# Altium footprint library Metal Screening Box.PcbLib: 38 footprints (part 2 of 3)
Each footprint in its own frame and in the unit in brackets; x right, y up, seen from the top. Pads: shape width x height; smd on the part's side, far side on the other; paste and mask are expansions set on the pad; w line width, h text height; cw(c..) or ccw(c..) is an arc to the next point about the centre after c.
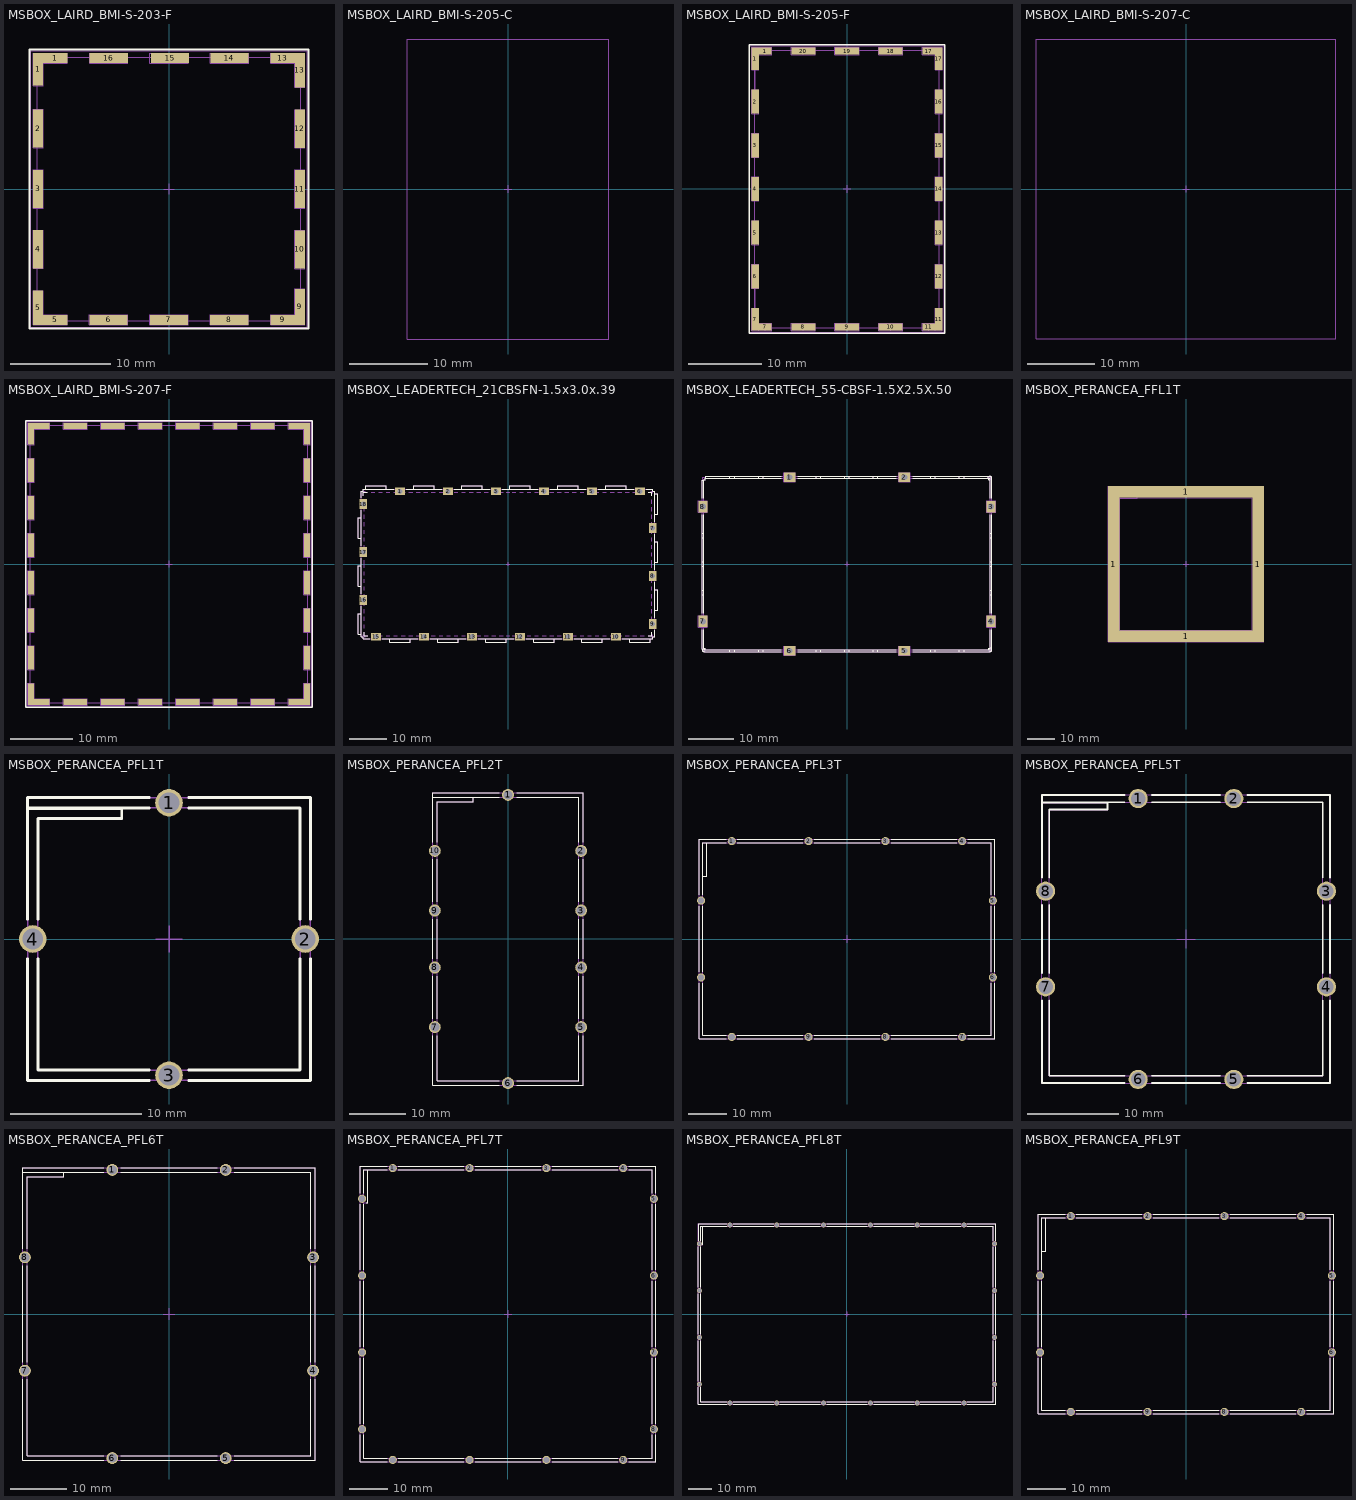
[diagram p1: the footprints below, top view; thin cyan lines are the x and y axes]

## MSBOX_LAIRD_BMI-S-203-F [mm] "Frame of Standard Surface Mount Shield (Two Piece), External Dimensions 26.21 x 26.21mm"
height 5.08
pads (20):
  rect 1x3.24 smd: 1(-13.005,11.885)
  rect 2.41x1 smd: 1(-11.3,13.005) 9(11.3,-13.005)
  rect 1x3.8 smd: 2(-13.005,6.005) 3(-13.005,0.005) 4(-13.005,-5.995) 10(13.005,-6.005) 11(13.005,-0.005) 12(13.005,5.995)
  rect 1x3.41 smd: 5(-13.005,-11.8) 13(13.005,11.8)
  rect 2.4x1 smd: 5(-11.305,-13.005) 13(11.305,13.005)
  rect 3.8x1 smd: 6(-6.005,-13.005) 7(-0.005,-13.005) 8(5.995,-13.005) 14(6.005,13.005) 15(0.1,13.005) 16(-5.995,13.005)
  rect 1x3.57 smd: 9(13.005,-11.72)
Top Overlay:
  lines w0.2: -13.855,-13.855 -13.855,13.855 13.855,13.855 13.855,-13.855 -13.855,-13.855
Mechanical 8:
  drawing of 183 lines, arcs and shapes, not listed
Mechanical 14:
  lines w0.1: -13.105,-13.105 -13.105,13.105 13.105,13.105 13.105,-13.105 -13.105,-13.105
Mechanical 15:
  lines w0.05: -13.755,-13.755 -13.755,13.755 13.755,13.755 13.755,-13.755 -13.755,-13.755
3D body "MSBOX_LAIRD_BMI-S-203-F.stp": height 5.08, standoff 0, extent -13.155,-13.155 13.155,13.155

## MSBOX_LAIRD_BMI-S-205-C [mm] "Cover for Frame of Standard Surface Mount Shield (Two Piece), External Dimensions 25.86 x 38.56mm"
height 2
Mechanical 8:
  lines w0.1: -0.5,0 0,0 ; -0.5,0 0,0 ; -0.5,0 0,0 ; 0,0 0,0.5 0,0 ; 0,0 0.5,0 0,0 ; 0,0 0,-0.5 0,0
Mechanical 14:
  lines w0.1: -12.93,-19.28 -12.93,19.28 12.93,19.28 12.93,-19.28 -12.93,-19.28
3D body "MSBOX_LAIRD_BMI-S-205-C.stp": height 6.13, standoff 4.13, extent -12.93,-19.28 12.93,19.28

## MSBOX_LAIRD_BMI-S-205-F [mm] "Frame of Standard Surface Mount Shield (Two Piece), External Dimensions 25.4 x 38.1mm"
height 6
pads (24):
  rect 1x3.1 smd: 1(-12.6,17.9) 7(-12.6,-17.9) 11(12.6,-17.9) 17(12.6,17.9)
  rect 1.75x1 smd: 1(-11.225,18.95) 7(-11.225,-18.953) 11(11.225,-18.95) 17(11.225,18.95)
  rect 1x3.3 smd: 2(-12.6,12) 3(-12.6,6) 4(-12.6,0) 5(-12.6,-6) 6(-12.6,-12) 12(12.6,-12) 13(12.6,-6) 14(12.6,0) 15(12.6,6) 16(12.6,12)
  rect 3.3x1 smd: 8(-6,-18.957) 9(0,-18.95) 10(6,-18.95) 18(6,18.95) 19(0,18.95) 20(-6,18.95)
Top Overlay:
  lines w0.2: -13.45,-19.8 -13.45,19.8 13.45,19.8 13.45,-19.8 -13.45,-19.8
Mechanical 8:
  drawing of 221 lines, arcs and shapes, not listed
Mechanical 14:
  lines w0.1: -12.7,-19.05 -12.7,19.05 12.7,19.05 12.7,-19.05 -12.7,-19.05
Mechanical 15:
  lines w0.05: -13.35,-19.7 -13.35,19.7 13.35,19.7 13.35,-19.7 -13.35,-19.7
3D body "MSBOX_LAIRD_BMI-S-205-F.stp": height 6, standoff 0, extent -12.75,-19.1 12.75,19.1

## MSBOX_LAIRD_BMI-S-207-C [mm] "Cover for Frame of Standard Surface Mount Shield (Two Piece), External Dimensions 44.83 x 44.83mm"
height 2
Mechanical 8:
  lines w0.1: 0,0 -0.5,0 0,0 ; 0,0 0,0.5 ; 0,0 0,-0.5 0,0 ; 0,0 0.5,0 0,0 ; 0,0 0,0.5 ; 0,0 0,0.5
Mechanical 14:
  lines w0.1: -22.415,-22.415 -22.415,22.415 22.415,22.415 22.415,-22.415 -22.415,-22.415
3D body "MSBOX_LAIRD_BMI-S-207-C.stp": height 9.88, standoff 7.88, extent -22.415,-22.415 22.415,22.415

## MSBOX_LAIRD_BMI-S-207-F [mm] "Frame of Standard Surface Mount Shield (Two Piece), External Dimensions 44.37 x 44.37mm"
height 9.75
pads (32):
  rect 1x3.485 smd: 1(-22.085,20.843) 8(-22.085,-20.843) 15(22.085,-20.843) 22(22.085,20.843)
  rect 2.485x1 smd: 1(-20.342,22.085) 8(-20.342,-22.085) 15(20.342,-22.085) 22(20.342,22.085)
  rect 1x3.8 smd: 2(-22.085,15) 3(-22.085,9) 4(-22.085,3) 5(-22.085,-3) 6(-22.085,-9) 7(-22.085,-15) 16(22.085,-15) 17(22.085,-9) 18(22.085,-3) 19(22.085,3) 20(22.085,9) 21(22.085,15)
  rect 3.8x1 smd: 9(-15,-22.085) 10(-9,-22.085) 11(-3,-22.085) 12(3,-22.085) 13(9,-22.085) 14(15,-22.085) 23(15,22.085) 24(9,22.085) 25(3,22.085) 26(-3,22.085) 27(-9,22.085) 28(-15,22.085)
Top Overlay:
  lines w0.2: -22.935,-22.935 -22.935,22.935 22.935,22.935 22.935,-22.935 -22.935,-22.935
Mechanical 8:
  drawing of 293 lines, arcs and shapes, not listed
Mechanical 14:
  lines w0.1: -22.185,-22.185 -22.185,22.185 22.185,22.185 22.185,-22.185 -22.185,-22.185
Mechanical 15:
  lines w0.05: -22.835,-22.835 -22.835,22.835 22.835,22.835 22.835,-22.835 -22.835,-22.835
3D body "MSBOX_LAIRD_BMI-S-207-F.stp": height 9.75, standoff 0, extent -22.235,-22.235 22.235,22.235

## MSBOX_LEADERTECH_21CBSFN-1.5x3.0x.39 [mm] "Metal Screening Box, Internal dimensions L38.1 x W76.2 x H9.9mm, Overall Size 38.48 x 76.58 x 10.28mm"
height 10.28
pads (18):
  rect 2.6x2 / inner round 2 / far side round 2 hole 1.3: 1(-28.575,19.202) 2(-15.875,19.202) 3(-3.175,19.202) 4(9.525,19.202) 5(22.225,19.202) 6(34.925,19.202) 10(28.575,-19.202) 11(15.875,-19.202) 12(3.175,-19.202) 13(-9.525,-19.202) 14(-22.225,-19.202) 15(-34.925,-19.202)
  rect 2x2.6 / inner round 2 / far side round 2 hole 1.3: 7(38.252,9.525) 8(38.252,-3.175) 9(38.252,-15.875) 16(-38.252,-9.525) 17(-38.252,3.175) 18(-38.252,15.875)
Top Overlay:
  lines w0.2: -38.824,-18.55 -39.698,-18.55 -39.698,-13.2 -38.824,-13.2 ; -38.824,-11.175 -38.824,-19.202 -38.252,-19.202 -38.252,-19.774 -36.575,-19.774 ; -38.824,-7.875 -38.824,1.525 ; -38.824,-5.85 -39.698,-5.85 -39.698,-0.5 -38.824,-0.5 ; -38.824,4.825 -38.824,14.225 ; -38.824,6.85 -39.698,6.85 -39.698,12.2 -38.824,12.2 ; -38.824,17.525 -38.824,19.202 -38.252,19.202 -38.252,19.774 -30.225,19.774 ; -38.257,18.012 -38.257,19.012 -37.257,19.012 ; -38.062,-18.012 -38.062,-19.012 -37.062,-19.012 ; -37.6,19.819 -37.6,20.648 -32.25,20.648 -32.25,19.774 ; -33.275,-19.774 -23.875,-19.774 ; -31.25,-19.774 -31.25,-20.648 -25.9,-20.648 -25.9,-19.774 ; -26.925,19.774 -17.525,19.774 ; -24.9,19.819 -24.9,20.648 -19.55,20.648 -19.55,19.774 ; -20.575,-19.774 -11.175,-19.774 ; -18.55,-19.774 -18.55,-20.648 -13.2,-20.648 -13.2,-19.774 ; -14.225,19.774 -4.825,19.774 ; -12.2,19.819 -12.2,20.648 -6.85,20.648 -6.85,19.774 ; -7.875,-19.774 1.525,-19.774 ; -5.85,-19.774 -5.85,-20.648 -0.5,-20.648 -0.5,-19.774 ; -1.525,19.774 7.875,19.774 ; 0.5,19.819 0.5,20.648 5.85,20.648 5.85,19.774 ; 4.825,-19.774 14.225,-19.774 ; 6.85,-19.774 6.85,-20.648 12.2,-20.648 12.2,-19.774 ; 11.175,19.774 20.575,19.774 ; 13.2,19.819 13.2,20.648 18.55,20.648 18.55,19.774 ; 17.525,-19.774 26.925,-19.774 ; 19.55,-19.774 19.55,-20.648 24.9,-20.648 24.9,-19.774 ; 23.875,19.774 33.275,19.774 ; 25.9,19.819 25.9,20.648 31.25,20.648 31.25,19.774 ; 30.225,-19.774 38.252,-19.774 38.252,-19.202 38.824,-19.202 38.824,-17.525 ; 32.25,-19.774 32.25,-20.648 37.6,-20.648 37.6,-19.774 ; 36.575,19.774 38.252,19.774 38.252,19.202 38.824,19.202 38.824,11.175 ; 37.062,-19.012 38.062,-19.012 38.062,-18.012 ; 37.062,19.012 38.062,19.012 38.062,18.012 ; 38.824,-14.225 38.824,-4.825 ; 38.824,-12.2 39.698,-12.2 39.698,-6.85 38.824,-6.85 ; 38.824,-1.525 38.824,7.875 ; 38.824,0.5 39.698,0.5 39.698,5.85 38.824,5.85 ; 38.824,13.2 39.698,13.2 39.698,18.55 38.824,18.55
Mechanical 8:
  lines w0.1: -38.752,-9.525 -38.252,-9.525 ; -38.752,3.175 -38.252,3.175 ; -38.752,15.875 -38.252,15.875 ; -38.252,-18.702 -38.252,-19.202 -37.752,-19.202 ; -38.252,-10.025 -38.252,-9.525 ; -38.252,-9.025 -38.252,-9.525 ; -38.252,2.675 -38.252,3.175 ; -38.252,3.675 -38.252,3.175 ; -38.252,15.375 -38.252,15.875 ; -38.252,16.375 -38.252,15.875 ; -38.252,18.702 -38.252,19.202 -37.752,19.202 ; -37.752,-9.525 -38.252,-9.525 ; -37.752,3.175 -38.252,3.175 ; -37.752,15.875 -38.252,15.875 ; -35.425,-19.202 -34.925,-19.202 ; -34.925,-19.702 -34.925,-19.202 ; -34.925,-18.702 -34.925,-19.202 ; -34.425,-19.202 -34.925,-19.202 ; -29.075,19.202 -28.575,19.202 ; -28.575,18.702 -28.575,19.202 ; -28.575,19.702 -28.575,19.202 ; -28.075,19.202 -28.575,19.202 ; -22.725,-19.202 -22.225,-19.202 ; -22.225,-19.702 -22.225,-19.202 ; -22.225,-18.702 -22.225,-19.202 ; -21.725,-19.202 -22.225,-19.202 ; -16.375,19.202 -15.875,19.202 ; -15.875,18.702 -15.875,19.202 ; -15.875,19.702 -15.875,19.202 ; -15.375,19.202 -15.875,19.202 ; -10.025,-19.202 -9.525,-19.202 ; -9.525,-19.702 -9.525,-19.202 ; -9.525,-18.702 -9.525,-19.202 ; -9.025,-19.202 -9.525,-19.202 ; -3.675,19.202 -3.175,19.202 ; -3.175,18.702 -3.175,19.202 ; -3.175,19.702 -3.175,19.202 ; -2.675,19.202 -3.175,19.202 ; -0.5,0 0,0 ; 0,-0.5 0,0 ; 0,0.5 0,0 ; 0.5,0 0,0 ; 2.675,-19.202 3.175,-19.202 ; 3.175,-19.702 3.175,-19.202 ; 3.175,-18.702 3.175,-19.202 ; 3.675,-19.202 3.175,-19.202 ; 9.025,19.202 9.525,19.202 ; 9.525,18.702 9.525,19.202 ; 9.525,19.702 9.525,19.202 ; 10.025,19.202 9.525,19.202 ; 15.375,-19.202 15.875,-19.202 ; 15.875,-19.702 15.875,-19.202 ; 15.875,-18.702 15.875,-19.202 ; 16.375,-19.202 15.875,-19.202 ; 21.725,19.202 22.225,19.202 ; 22.225,18.702 22.225,19.202 ; 22.225,19.702 22.225,19.202 ; 22.725,19.202 22.225,19.202 ; 28.075,-19.202 28.575,-19.202 ; 28.575,-19.702 28.575,-19.202 ; 28.575,-18.702 28.575,-19.202 ; 29.075,-19.202 28.575,-19.202 ; 34.425,19.202 34.925,19.202 ; 34.925,18.702 34.925,19.202 ; 34.925,19.702 34.925,19.202 ; 35.425,19.202 34.925,19.202 ; 37.752,-19.202 38.252,-19.202 38.252,-18.702 ; 37.752,-15.875 38.252,-15.875 ; 37.752,-3.175 38.252,-3.175 ; 37.752,9.525 38.252,9.525 ; 37.752,19.202 38.252,19.202 38.252,18.702 ; 38.252,-16.375 38.252,-15.875 ; 38.252,-15.375 38.252,-15.875 ; 38.252,-3.675 38.252,-3.175 ; 38.252,-2.675 38.252,-3.175 ; 38.252,9.025 38.252,9.525 ; 38.252,10.025 38.252,9.525 ; 38.752,-15.875 38.252,-15.875 ; 38.752,-3.175 38.252,-3.175 ; 38.752,9.525 38.252,9.525
Mechanical 14:
  drawing of 184 lines, arcs and shapes, not listed
3D body "LEADERTECH_21CBSFN-1.5x3.0x.39.stp": height 10.01, standoff -2.54, extent -39.698,-20.648 39.698,20.648

## MSBOX_LEADERTECH_55-CBSF-1.5X2.5X.50 [mm] "Metal Screening Box, W1.5 x L2.5 x 0.5\", 1.0\" Pin Spacing"
height 12.7
pads (8):
  rect 2.6x2 / inner round 2 / far side round 2 hole 1.3: 1(-12.7,19.202) 2(12.7,19.202) 5(12.7,-19.202) 6(-12.7,-19.202)
  rect 2x2.6 / inner round 2 / far side round 2 hole 1.3: 3(31.902,12.7) 4(31.902,-12.7) 7(-31.902,-12.7) 8(-31.902,12.7)
Top Overlay:
  lines w0.2: -32.093,-14.5 -32.093,-18.885 ccw(c-31.585,-18.885) -31.585,-19.393 -14.5,-19.393 ; -32.093,-10.9 -32.093,10.9 ; -32.093,-6.858 -31.712,-6.858 ; -32.093,-5.842 -31.712,-5.842 ; -32.093,-0.508 -31.712,-0.508 ; -32.093,0.508 -31.712,0.508 ; -32.093,5.842 -31.712,5.842 ; -32.093,6.858 -31.712,6.858 ; -32.093,14.5 -32.093,18.542 -31.712,18.542 ; -31.712,-18.631 -31.331,-18.631 -31.331,-19.012 ; -31.712,-14.5 -31.712,-18.885 ccw(c-31.585,-18.885) -31.585,-19.012 -14.5,-19.012 ; -31.712,-10.9 -31.712,10.9 ; -31.712,14.5 -31.712,18.631 -31.331,18.631 -31.331,19.012 -14.5,19.012 ; -31.242,19.012 -31.242,19.393 -14.5,19.393 ; -25.908,-19.393 -25.908,-19.012 ; -25.908,19.012 -25.908,19.393 ; -24.892,-19.393 -24.892,-19.012 ; -24.892,19.012 -24.892,19.393 ; -19.558,-19.393 -19.558,-19.012 ; -19.558,19.012 -19.558,19.393 ; -18.542,-19.393 -18.542,-19.012 ; -18.542,19.012 -18.542,19.393 ; -10.9,-19.393 10.9,-19.393 ; -10.9,-19.012 10.9,-19.012 ; -10.9,19.012 10.9,19.012 ; -10.9,19.393 10.9,19.393 ; -6.858,-19.393 -6.858,-19.012 ; -6.858,19.012 -6.858,19.393 ; -5.842,-19.393 -5.842,-19.012 ; -5.842,19.012 -5.842,19.393 ; -0.508,-19.393 -0.508,-19.012 ; -0.508,19.012 -0.508,19.393 ; 0.508,-19.393 0.508,-19.012 ; 0.508,19.012 0.508,19.393 ; 5.842,-19.393 5.842,-19.012 ; 5.842,19.012 5.842,19.393 ; 6.858,-19.393 6.858,-19.012 ; 6.858,19.012 6.858,19.393 ; 14.5,-19.393 31.585,-19.393 ccw(c31.585,-18.885) 32.093,-18.885 32.093,-14.5 ; 14.5,-19.012 31.585,-19.012 ccw(c31.585,-18.885) 31.712,-18.885 31.712,-14.5 ; 14.5,19.012 31.585,19.012 cw(c31.585,18.885) 31.712,18.885 31.712,14.5 ; 14.5,19.393 31.585,19.393 cw(c31.585,18.885) 32.093,18.885 32.093,14.5 ; 18.542,-19.393 18.542,-19.012 ; 18.542,19.012 18.542,19.393 ; 19.558,-19.393 19.558,-19.012 ; 19.558,19.012 19.558,19.393 ; 24.892,-19.393 24.892,-19.012 ; 24.892,19.012 24.892,19.393 ; 25.908,-19.393 25.908,-19.012 ; 25.908,19.012 25.908,19.393 ; 31.242,19.012 31.242,19.393 ; 31.331,-19.012 31.331,-18.631 31.712,-18.631 ; 31.331,19.012 31.331,18.631 31.712,18.631 ; 31.712,-18.542 32.093,-18.542 ; 31.712,-10.9 31.712,10.9 ; 31.712,-6.858 32.093,-6.858 ; 31.712,-5.842 32.093,-5.842 ; 31.712,-0.508 32.093,-0.508 ; 31.712,0.508 32.093,0.508 ; 31.712,5.842 32.093,5.842 ; 31.712,6.858 32.093,6.858 ; 32.093,-10.9 32.093,10.9
Mechanical 8:
  circle w0.05: c-12.7,-19.202 r0.65
  circle w0.05: c12.7,-19.202 r0.65
  circle w0.05: c12.7,19.202 r0.65
  circle w0.05: c31.902,12.7 r0.65
  circle w0.05: c31.902,-12.7 r0.65
  circle w0.05: c-31.902,-12.7 r0.65
  circle w0.05: c-12.7,19.202 r0.65
  circle w0.05: c-31.902,12.7 r0.65
  lines w0.05: -32.402,-12.7 -31.902,-12.7 ; -32.402,12.7 -31.902,12.7 ; -31.902,-18.702 -31.902,-19.202 -31.402,-19.202 ; -31.902,-13.2 -31.902,-12.7 ; -31.902,-12.2 -31.902,-12.7 ; -31.902,12.2 -31.902,12.7 ; -31.902,13.2 -31.902,12.7 ; -31.902,18.702 -31.902,19.202 -31.402,19.202 ; -31.402,-12.7 -31.902,-12.7 ; -31.402,12.7 -31.902,12.7 ; -13.2,-19.202 -12.7,-19.202 ; -13.2,19.202 -12.7,19.202 ; -12.7,-19.702 -12.7,-19.202 ; -12.7,-18.702 -12.7,-19.202 ; -12.7,18.702 -12.7,19.202 ; -12.7,19.702 -12.7,19.202 ; -12.2,-19.202 -12.7,-19.202 ; -12.2,19.202 -12.7,19.202 ; -0.5,0 0,0 ; 0,-0.5 0,0 ; 0,0.5 0,0 ; 0.5,0 0,0 ; 12.2,-19.202 12.7,-19.202 ; 12.2,19.202 12.7,19.202 ; 12.7,-19.702 12.7,-19.202 ; 12.7,-18.702 12.7,-19.202 ; 12.7,18.702 12.7,19.202 ; 12.7,19.702 12.7,19.202 ; 13.2,-19.202 12.7,-19.202 ; 13.2,19.202 12.7,19.202 ; 31.402,-19.202 31.902,-19.202 31.902,-18.702 ; 31.402,-12.7 31.902,-12.7 ; 31.402,12.7 31.902,12.7 ; 31.402,19.202 31.902,19.202 31.902,18.702 ; 31.902,-13.2 31.902,-12.7 ; 31.902,-12.2 31.902,-12.7 ; 31.902,12.2 31.902,12.7 ; 31.902,13.2 31.902,12.7 ; 32.402,-12.7 31.902,-12.7 ; 32.402,12.7 31.902,12.7 ; -32.902,-14 -32.902,-11.4 -30.902,-11.4 -30.902,-14 -32.902,-14 ; -32.902,11.4 -32.902,14 -30.902,14 -30.902,11.4 -32.902,11.4 ; -14,-20.202 -11.4,-20.202 -11.4,-18.202 -14,-18.202 -14,-20.202 ; -14,18.202 -11.4,18.202 -11.4,20.202 -14,20.202 -14,18.202 ; 11.4,-20.202 14,-20.202 14,-18.202 11.4,-18.202 11.4,-20.202 ; 11.4,18.202 14,18.202 14,20.202 11.4,20.202 11.4,18.202 ; 30.902,-14 30.902,-11.4 32.902,-11.4 32.902,-14 30.902,-14 ; 30.902,11.4 30.902,14 32.902,14 32.902,11.4 30.902,11.4
Mechanical 14:
  lines w0.1: -32.093,-13.208 -31.712,-13.208 ; -32.093,-12.192 -31.712,-12.192 ; -32.093,-6.858 -31.712,-6.858 ; -32.093,-5.842 -31.712,-5.842 ; -32.093,-0.508 -31.712,-0.508 ; -32.093,0.508 -31.712,0.508 ; -32.093,5.842 -31.712,5.842 ; -32.093,6.858 -31.712,6.858 ; -32.093,12.192 -31.712,12.192 ; -32.093,13.208 -31.712,13.208 ; -31.712,-18.631 -31.331,-18.631 -31.331,-19.012 ; -31.712,18.542 -32.093,18.542 -32.093,-18.885 ccw(c-31.585,-18.885) -31.585,-19.393 31.585,-19.393 ccw(c31.585,-18.885) 32.093,-18.885 32.093,18.885 ccw(c31.585,18.885) 31.585,19.393 -31.242,19.393 -31.242,19.012 ; -25.908,-19.393 -25.908,-19.012 ; -25.908,19.012 -25.908,19.393 ; -24.892,-19.393 -24.892,-19.012 ; -24.892,19.012 -24.892,19.393 ; -19.558,-19.393 -19.558,-19.012 ; -19.558,19.012 -19.558,19.393 ; -18.542,-19.393 -18.542,-19.012 ; -18.542,19.012 -18.542,19.393 ; -13.208,-19.393 -13.208,-19.012 ; -13.208,19.012 -13.208,19.393 ; -12.192,-19.393 -12.192,-19.012 ; -12.192,19.012 -12.192,19.393 ; -6.858,-19.393 -6.858,-19.012 ; -6.858,19.012 -6.858,19.393 ; -5.842,-19.393 -5.842,-19.012 ; -5.842,19.012 -5.842,19.393 ; -0.508,-19.393 -0.508,-19.012 ; -0.508,19.012 -0.508,19.393 ; 0.508,-19.393 0.508,-19.012 ; 0.508,19.012 0.508,19.393 ; 5.842,-19.393 5.842,-19.012 ; 5.842,19.012 5.842,19.393 ; 6.858,-19.393 6.858,-19.012 ; 6.858,19.012 6.858,19.393 ; 12.192,-19.393 12.192,-19.012 ; 12.192,19.012 12.192,19.393 ; 13.208,-19.393 13.208,-19.012 ; 13.208,19.012 13.208,19.393 ; 18.542,-19.393 18.542,-19.012 ; 18.542,19.012 18.542,19.393 ; 19.558,-19.393 19.558,-19.012 ; 19.558,19.012 19.558,19.393 ; 24.892,-19.393 24.892,-19.012 ; 24.892,19.012 24.892,19.393 ; 25.908,-19.393 25.908,-19.012 ; 25.908,19.012 25.908,19.393 ; 31.242,19.012 31.242,19.393 ; 31.331,-19.012 31.331,-18.631 31.712,-18.631 ; 31.331,19.012 31.331,18.631 31.712,18.631 ; 31.712,-18.542 32.093,-18.542 ; 31.712,-13.208 32.093,-13.208 ; 31.712,-12.192 32.093,-12.192 ; 31.712,-6.858 32.093,-6.858 ; 31.712,-5.842 32.093,-5.842 ; 31.712,-0.508 32.093,-0.508 ; 31.712,0.508 32.093,0.508 ; 31.712,5.842 32.093,5.842 ; 31.712,6.858 32.093,6.858 ; 31.712,12.192 32.093,12.192 ; 31.712,13.208 32.093,13.208 ; -31.712,-18.885 ccw(c-31.585,-18.885) -31.585,-19.012 31.585,-19.012 ccw(c31.585,-18.885) 31.712,-18.885 31.712,18.885 ccw(c31.585,18.885) 31.585,19.012 -31.331,19.012 -31.331,18.631 -31.712,18.631 -31.712,-18.885
3D body "MSBOX_LEADERTECH_55-CBS.stp": height 12.7, standoff -3.05, extent -32.093,-19.393 32.093,19.393

## MSBOX_PERANCEA_FFL1T [mm] "Metal Screening Box, Internal dimensions L50 x W50 x H15mm, Overall Size 55x55x16mm"
height 16
pads (4):
  rect 4.2x56.9 smd paste-2.1: 1(-26.367,0) 1(26.367,0)
  rect 56.9x4.2 smd paste-2.1: 1(0,-26.343) 1(0,26.343)
Top Overlay:
  lines w0.2: -25.917,-23.893 -25.917,-25.893 -23.917,-25.893 ; -25.917,23.893 -25.917,25.893 -23.917,25.893 ; 23.917,-25.893 25.917,-25.893 25.917,-23.893 ; 23.917,25.893 25.917,25.893 25.917,23.893
Mechanical 8:
  lines w0.1: -27.367,0 -26.367,0 ; -26.367,-1 -26.367,0 ; -26.367,1 -26.367,0 ; -25.367,0 -26.367,0 ; -1,-26.343 0,-26.343 ; -1,0 0,0 ; -1,26.343 0,26.343 ; 0,-27.343 0,-26.343 ; 0,-25.343 0,-26.343 ; 0,-1 0,0 ; 0,1 0,0 ; 0,25.343 0,26.343 ; 0,27.343 0,26.343 ; 1,-26.343 0,-26.343 ; 1,0 0,0 ; 1,26.343 0,26.343 ; 25.367,0 26.367,0 ; 26.367,-1 26.367,0 ; 26.367,1 26.367,0 ; 27.367,0 26.367,0 ; -28.467,-28.443 28.467,-28.443 28.467,28.443 -28.467,28.443 -28.467,-28.443 ; -25.467,-25.443 25.467,-25.443 25.467,25.443 -25.467,25.443 -25.467,-25.443 ; -24.267,-24.243 24.267,-24.243 24.267,24.243 -24.267,24.243 -24.267,-24.243
Mechanical 14:
  lines w0.1: -25.917,24.991 25.014,24.991 25.014,-24.991 -25.014,-24.991 -25.014,24.088 -17.874,24.088 -17.874,24.991 ; -25.917,-25.893 -25.917,25.893 25.917,25.893 25.917,-25.893 -25.917,-25.893
3D body "MSBOX_PERANCEA_FFL1T.stp": height 16, standoff 0, extent -27.337,-27.313 27.337,27.314

## MSBOX_PERANCEA_PFL1T [mm] "Metal Screening Box, Internal dimensions L20 x W20 x H10mm, Overall Size 25x25x11mm"
height 11
pads (4):
  round 2.1 hole 1.6: 1(0,10.4) 2(10.4,0) 3(0,-10.4) 4(-10.4,0)
Top Overlay:
  lines w0.2: -10.8,-1.5 -10.8,-10.8 -1.5,-10.8 ; -10.8,1.5 -10.8,9.95 -3.6,9.95 -3.6,9.2 -10,9.2 -10,1.5 ; -10,-1.5 -10,-10 -1.5,-10 ; -1.5,10 -10.8,10 ; -1.5,10.8 -10.8,10.8 ; 1.5,-10.8 10.8,-10.8 10.8,-1.5 ; 1.5,-10 10,-10 10,-1.5 ; 1.5,10 10,10 10,1.5 ; 1.5,10.8 10.8,10.8 10.8,1.5 ; -10.8,10 -10.8,10.8 ; -10.8,10 -10.8,10.8
Mechanical 8:
  lines w0.1: -11.4,0 -10.4,0 ; -10.4,-1 -10.4,0 ; -10.4,1 -10.4,0 ; -9.4,0 -10.4,0 ; -1,-10.4 0,-10.4 ; -1,0 0,0 ; -1,10.4 0,10.4 ; 0,-11.4 0,-10.4 ; 0,-9.4 0,-10.4 ; 0,-1 0,0 ; 0,1 0,0 ; 0,9.4 0,10.4 ; 0,11.4 0,10.4 ; 1,-10.4 0,-10.4 ; 1,0 0,0 ; 1,10.4 0,10.4 ; 9.4,0 10.4,0 ; 10.4,-1 10.4,0 ; 10.4,1 10.4,0 ; 11.4,0 10.4,0
Mechanical 14:
  lines w0.1: -10.8,10 -10.8,10.8 ; -10.8,10 10,10 10,-10 -10,-10 -10,9.2 -3.6,9.2 -3.6,9.95 -10.8,9.95 -10.8,-10.8 10.8,-10.8 10.8,10.8 -10.8,10.8 ; -10.8,10 -10.8,10.8
3D body "MSBOX_PERANCEA_PFL1T.stp": height 11, standoff -2.25, extent -12.22,-12.22 12.231,12.22

## MSBOX_PERANCEA_PFL2T [mm] "Metal Screening Box, Internal dimensions L50 x W25 x H15mm, Overall Size 55x30x16mm"
height 16
pads (10):
  round 2.1 hole 1.6: 1(0,25.4) 2(12.9,15.525) 3(12.9,5.025) 4(12.9,-5.025) 5(12.9,-15.525) 6(0,-25.4) 7(-12.9,-15.525) 8(-12.9,-5.025) 9(-12.9,5.025) 10(-12.9,15.525)
Top Overlay:
  lines w0.2: -13.3,-17.025 -13.3,-25.8 -1.5,-25.8 ; -13.3,-14.025 -13.3,-6.525 ; -13.3,-3.525 -13.3,3.525 ; -13.3,6.525 -13.3,14.025 ; -13.3,17.025 -13.3,25.8 -1.5,25.8 ; -13.3,25 -1.5,25 ; -12.5,-17.025 -12.5,-25 -1.5,-25 ; -12.5,-14.025 -12.5,-6.525 ; -12.5,-3.525 -12.5,3.525 ; -12.5,6.525 -12.5,14.025 ; -12.5,17.025 -12.5,24.2 -6.1,24.2 -6.1,25 ; 1.5,-25.8 13.3,-25.8 13.3,-17.025 ; 1.5,-25 12.5,-25 12.5,-17.025 ; 1.5,25 12.5,25 12.5,17.025 ; 1.5,25.8 13.3,25.8 13.3,17.025 ; 12.5,-14.025 12.5,-6.525 ; 12.5,-3.525 12.5,3.525 ; 12.5,6.525 12.5,14.025 ; 13.3,-14.025 13.3,-6.525 ; 13.3,-3.525 13.3,3.525 ; 13.3,6.525 13.3,14.025
Mechanical 8:
  lines w0.1: -13.7,-15.525 -12.9,-15.525 ; -13.7,-5.025 -12.9,-5.025 ; -13.7,5.025 -12.9,5.025 ; -13.7,15.525 -12.9,15.525 ; -12.9,-16.325 -12.9,-15.525 ; -12.9,-14.725 -12.9,-15.525 ; -12.9,-5.825 -12.9,-5.025 ; -12.9,-4.225 -12.9,-5.025 ; -12.9,4.225 -12.9,5.025 ; -12.9,5.825 -12.9,5.025 ; -12.9,14.725 -12.9,15.525 ; -12.9,16.325 -12.9,15.525 ; -12.1,-15.525 -12.9,-15.525 ; -12.1,-5.025 -12.9,-5.025 ; -12.1,5.025 -12.9,5.025 ; -12.1,15.525 -12.9,15.525 ; -0.8,-25.4 0,-25.4 ; -0.8,25.4 0,25.4 ; 0,-26.2 0,-25.4 ; 0,-24.6 0,-25.4 ; 0,24.6 0,25.4 ; 0,26.2 0,25.4 ; 0.8,-25.4 0,-25.4 ; 0.8,25.4 0,25.4 ; 12.1,-15.525 12.9,-15.525 ; 12.1,-5.025 12.9,-5.025 ; 12.1,5.025 12.9,5.025 ; 12.1,15.525 12.9,15.525 ; 12.9,-16.325 12.9,-15.525 ; 12.9,-14.725 12.9,-15.525 ; 12.9,-5.825 12.9,-5.025 ; 12.9,-4.225 12.9,-5.025 ; 12.9,4.225 12.9,5.025 ; 12.9,5.825 12.9,5.025 ; 12.9,14.725 12.9,15.525 ; 12.9,16.325 12.9,15.525 ; 13.7,-15.525 12.9,-15.525 ; 13.7,-5.025 12.9,-5.025 ; 13.7,5.025 12.9,5.025 ; 13.7,15.525 12.9,15.525
Mechanical 14:
  lines w0.1: -13.3,25 12.5,25 12.5,-25 -12.5,-25 -12.5,24.2 -6.1,24.2 -6.1,25 ; -13.3,-25.8 -13.3,25.8 13.3,25.8 13.3,-25.8 -13.3,-25.8
3D body "MSBOX_PERANCEA_PFL2T.stp": height 16, standoff -2.25, extent -14.72,-27.22 14.72,27.22

## MSBOX_PERANCEA_PFL3T [mm] "Metal Screening Box, Internal dimensions L75 x W50 x H25mm, Overall Size 80x55x26mm"
height 26
pads (12):
  round 2.1 hole 1.6: 1(-30,25.5) 2(-10,25.5) 3(10,25.5) 4(30,25.5) 5(38,10) 6(38,-10) 7(30,-25.5) 8(10,-25.5) 9(-10,-25.5) 10(-30,-25.5) 11(-38,-10) 12(-38,10)
Top Overlay:
  lines w0.2: -38.5,-11.467 -38.5,-26 -31.467,-26 ; -38.5,-8.533 -38.5,8.533 ; -38.5,11.467 -38.5,26 -31.467,26 ; -37.5,-11.467 -37.5,-25 -31.467,-25 ; -37.5,-8.533 -37.5,8.533 ; -37.5,11.467 -37.5,25 -31.467,25 ; -37.5,16.4 -36.45,16.4 -36.45,25 ; -28.533,-26 -11.467,-26 ; -28.533,-25 -11.467,-25 ; -28.533,25 -11.467,25 ; -28.533,26 -11.467,26 ; -8.533,-26 8.533,-26 ; -8.533,-25 8.533,-25 ; -8.533,25 8.533,25 ; -8.533,26 8.533,26 ; 11.467,-26 28.533,-26 ; 11.467,-25 28.533,-25 ; 11.467,25 28.533,25 ; 11.467,26 28.533,26 ; 31.467,-26 38.5,-26 38.5,-11.467 ; 31.467,-25 37.5,-25 37.5,-11.467 ; 31.467,25 37.5,25 37.5,11.467 ; 31.467,26 38.5,26 38.5,11.467 ; 37.5,-8.533 37.5,8.533 ; 38.5,-8.533 38.5,8.533
Mechanical 8:
  lines w0.1: -39,-10 -38,-10 ; -39,10 -38,10 ; -38,-11 -38,-10 ; -38,-9 -38,-10 ; -38,9 -38,10 ; -38,11 -38,10 ; -37,-10 -38,-10 ; -37,10 -38,10 ; -31,-25.5 -30,-25.5 ; -31,25.5 -30,25.5 ; -30,-26.5 -30,-25.5 ; -30,-24.5 -30,-25.5 ; -30,24.5 -30,25.5 ; -30,26.5 -30,25.5 ; -29,-25.5 -30,-25.5 ; -29,25.5 -30,25.5 ; -11,-25.5 -10,-25.5 ; -11,25.5 -10,25.5 ; -10,-26.5 -10,-25.5 ; -10,-24.5 -10,-25.5 ; -10,24.5 -10,25.5 ; -10,26.5 -10,25.5 ; -9,-25.5 -10,-25.5 ; -9,25.5 -10,25.5 ; 9,-25.5 10,-25.5 ; 9,25.5 10,25.5 ; 10,-26.5 10,-25.5 ; 10,-24.5 10,-25.5 ; 10,24.5 10,25.5 ; 10,26.5 10,25.5 ; 11,-25.5 10,-25.5 ; 11,25.5 10,25.5 ; 29,-25.5 30,-25.5 ; 29,25.5 30,25.5 ; 30,-26.5 30,-25.5 ; 30,-24.5 30,-25.5 ; 30,24.5 30,25.5 ; 30,26.5 30,25.5 ; 31,-25.5 30,-25.5 ; 31,25.5 30,25.5 ; 37,-10 38,-10 ; 37,10 38,10 ; 38,-11 38,-10 ; 38,-9 38,-10 ; 38,9 38,10 ; 38,11 38,10 ; 39,-10 38,-10 ; 39,10 38,10 ; 0,0 -1,0 0,0 ; 0,0 0,1 0,0 ; 0,0 0,-1 0,0 ; 0,0 1,0 0,0
Mechanical 14:
  lines w0.1: -37.45,16.4 -36.45,16.4 -36.45,25 ; -38.5,-26 -38.5,26 38.5,26 38.5,-26 -38.5,-26 ; -37.5,-25 -37.5,25 37.5,25 37.5,-25 -37.5,-25
3D body "MSBOX_PERANCEA_PFL3T.stp": height 25.6, standoff -2.1, extent -39.941,-27.431 39.942,27.431

## MSBOX_PERANCEA_PFL5T [mm] "Metal Screening Box, Internal dimensions L30 x W30 x H15mm, Overall Size 35x35x16mm"
height 16
pads (8):
  round 2.1 hole 1.6: 1(-5.25,15.4) 2(5.25,15.4) 3(15.4,5.25) 4(15.4,-5.25) 5(5.25,-15.4) 6(-5.25,-15.4) 7(-15.4,-5.25) 8(-15.4,5.25)
Top Overlay:
  lines w0.2: -15.8,-6.75 -15.8,-15.8 -6.75,-15.8 ; -15.8,-3.75 -15.8,3.75 ; -15.8,6.75 -15.8,14.95 -8.6,14.95 -8.6,14.2 -15,14.2 -15,6.75 ; -15,-6.75 -15,-15 -6.75,-15 ; -15,-3.75 -15,3.75 ; -6.75,15 -15.8,15 -15.8,15.8 -6.75,15.8 ; -3.75,-15.8 3.75,-15.8 ; -3.75,-15 3.75,-15 ; -3.75,15 3.75,15 ; -3.75,15.8 3.75,15.8 ; 6.75,-15.8 15.8,-15.8 15.8,-6.75 ; 6.75,-15 15,-15 15,-6.75 ; 6.75,15 15,15 15,6.75 ; 6.75,15.8 15.8,15.8 15.8,6.75 ; 15,-3.75 15,3.75 ; 15.8,-3.75 15.8,3.75
Mechanical 8:
  lines w0.1: -16.4,-5.25 -15.4,-5.25 ; -16.4,5.25 -15.4,5.25 ; -15.4,-6.25 -15.4,-5.25 ; -15.4,-4.25 -15.4,-5.25 ; -15.4,4.25 -15.4,5.25 ; -15.4,6.25 -15.4,5.25 ; -14.4,-5.25 -15.4,-5.25 ; -14.4,5.25 -15.4,5.25 ; -6.25,-15.4 -5.25,-15.4 ; -6.25,15.4 -5.25,15.4 ; -5.25,-16.4 -5.25,-15.4 ; -5.25,-14.4 -5.25,-15.4 ; -5.25,14.4 -5.25,15.4 ; -5.25,16.4 -5.25,15.4 ; -4.25,-15.4 -5.25,-15.4 ; -4.25,15.4 -5.25,15.4 ; -1,0 0,0 ; 0,-1 0,0 ; 0,1 0,0 ; 1,0 0,0 ; 4.25,-15.4 5.25,-15.4 ; 4.25,15.4 5.25,15.4 ; 5.25,-16.4 5.25,-15.4 ; 5.25,-14.4 5.25,-15.4 ; 5.25,14.4 5.25,15.4 ; 5.25,16.4 5.25,15.4 ; 6.25,-15.4 5.25,-15.4 ; 6.25,15.4 5.25,15.4 ; 14.4,-5.25 15.4,-5.25 ; 14.4,5.25 15.4,5.25 ; 15.4,-6.25 15.4,-5.25 ; 15.4,-4.25 15.4,-5.25 ; 15.4,4.25 15.4,5.25 ; 15.4,6.25 15.4,5.25 ; 16.4,-5.25 15.4,-5.25 ; 16.4,5.25 15.4,5.25
Mechanical 14:
  lines w0.1: -15.8,-15.8 15.8,-15.8 15.8,15.8 -15.8,15.8 -15.8,15 15,15 15,-15 -15,-15 -15,14.2 -8.6,14.2 -8.6,14.95 -15.8,14.95 -15.8,-15.8
3D body "MSBOX_PERANCEA_PFL5T.stp": height 16, standoff -2.25, extent -17.22,-17.22 17.22,17.22

## MSBOX_PERANCEA_PFL6T [mm] "Metal Screening Box, Internal dimensions L50 x W50 x H15mm, Overall Size 55x55x16mm"
height 16
pads (8):
  round 2.1 hole 1.6: 1(-10,25.4) 2(10,25.4) 3(25.4,10) 4(25.4,-10) 5(10,-25.4) 6(-10,-25.4) 7(-25.4,-10) 8(-25.4,10)
Top Overlay:
  lines w0.2: -25.8,-11.5 -25.8,-25.8 -11.5,-25.8 ; -25.8,-8.5 -25.8,8.5 ; -25.8,11.5 -25.8,25.8 -11.5,25.8 ; -25.8,25 -11.5,25 ; -25,-11.5 -25,-25 -11.5,-25 ; -25,-8.5 -25,8.5 ; -25,11.5 -25,24.2 -18.6,24.2 -18.6,25 ; -8.5,-25.8 8.5,-25.8 ; -8.5,-25 8.5,-25 ; -8.5,25 8.5,25 ; -8.5,25.8 8.5,25.8 ; 11.5,-25.8 25.8,-25.8 25.8,-11.5 ; 11.5,-25 25,-25 25,-11.5 ; 11.5,25 25,25 25,11.5 ; 11.5,25.8 25.8,25.8 25.8,11.5 ; 25,-8.5 25,8.5 ; 25.8,-8.5 25.8,8.5
Mechanical 8:
  lines w0.1: -26.4,-10 -25.4,-10 ; -26.4,10 -25.4,10 ; -25.4,-11 -25.4,-10 ; -25.4,-9 -25.4,-10 ; -25.4,9 -25.4,10 ; -25.4,11 -25.4,10 ; -24.4,-10 -25.4,-10 ; -24.4,10 -25.4,10 ; -11,-25.4 -10,-25.4 ; -11,25.4 -10,25.4 ; -10,-26.4 -10,-25.4 ; -10,-24.4 -10,-25.4 ; -10,24.4 -10,25.4 ; -10,26.4 -10,25.4 ; -9,-25.4 -10,-25.4 ; -9,25.4 -10,25.4 ; -1,0 0,0 ; 0,-1 0,0 ; 0,1 0,0 ; 1,0 0,0 ; 9,-25.4 10,-25.4 ; 9,25.4 10,25.4 ; 10,-26.4 10,-25.4 ; 10,-24.4 10,-25.4 ; 10,24.4 10,25.4 ; 10,26.4 10,25.4 ; 11,-25.4 10,-25.4 ; 11,25.4 10,25.4 ; 24.4,-10 25.4,-10 ; 24.4,10 25.4,10 ; 25.4,-11 25.4,-10 ; 25.4,-9 25.4,-10 ; 25.4,9 25.4,10 ; 25.4,11 25.4,10 ; 26.4,-10 25.4,-10 ; 26.4,10 25.4,10
Mechanical 14:
  lines w0.1: -25.8,25 25,25 25,-25 -25,-25 -25,24.2 -18.6,24.2 -18.6,25 ; -25.8,-25.8 -25.8,25.8 25.8,25.8 25.8,-25.8 -25.8,-25.8
3D body "MSBOX_PERANCEA_PFL6T.stp": height 16, standoff -2.25, extent -27.22,-27.22 27.22,27.22

## MSBOX_PERANCEA_PFL7T [mm] "Metal Screening Box, Internal dimensions L75 x W75 x H25mm, Overall Size 80x80x26mm"
height 26
pads (16):
  round 2.1 hole 1.6: 1(-30,38) 2(-10,38) 3(10,38) 4(30,38) 5(38,30) 6(38,10) 7(38,-10) 8(38,-30) 9(30,-38) 10(10,-38) 11(-10,-38) 12(-30,-38) 13(-38,-30) 14(-38,-10) 15(-38,10) 16(-38,30)
Top Overlay:
  lines w0.2: -36.908,28.9 -36.45,28.9 -36.45,37.5 ; -38.5,-38.5 -31.467,-38.5 -38.5,-38.5 ; -38.5,-38.5 -38.5,-31.467 -38.5,-38.5 ; -38.5,38.5 -31.467,38.5 -38.5,38.5 ; -38.5,38.5 -38.5,31.467 -38.5,38.5 ; -37.5,-37.5 -31.467,-37.5 -37.5,-37.5 ; -37.5,-37.5 -37.5,-31.467 -37.5,-37.5 ; -37.5,37.5 -31.467,37.5 -37.5,37.5 ; -37.5,37.5 -37.5,31.467 -37.5,37.5 ; 37.5,-37.5 31.467,-37.5 37.5,-37.5 ; 37.5,-37.5 37.5,-31.467 37.5,-37.5 ; 37.5,37.5 31.467,37.5 37.5,37.5 ; 37.5,37.5 37.5,31.467 37.5,37.5 ; 38.5,-38.5 31.467,-38.5 38.5,-38.5 ; 38.5,-38.5 38.5,-31.467 38.5,-38.5 ; 38.5,38.5 31.467,38.5 38.5,38.5 ; 38.5,38.5 38.5,31.467 38.5,38.5 ; -38.5,-28.533 -38.5,-11.467 -38.5,-28.533 ; -38.5,-8.533 -38.5,8.533 -38.5,-8.533 ; -38.5,11.467 -38.5,28.533 -38.5,11.467 ; -37.5,-28.533 -37.5,-11.467 -37.5,-28.533 ; -37.5,-8.533 -37.5,8.533 -37.5,-8.533 ; -37.5,11.467 -37.5,28.533 -37.5,11.467 ; -28.533,-38.5 -11.467,-38.5 -28.533,-38.5 ; -28.533,-37.5 -11.467,-37.5 -28.533,-37.5 ; -28.533,37.5 -11.467,37.5 -28.533,37.5 ; -28.533,38.5 -11.467,38.5 -28.533,38.5 ; -8.533,-38.5 8.533,-38.5 -8.533,-38.5 ; -8.533,-37.5 8.533,-37.5 -8.533,-37.5 ; -8.533,37.5 8.533,37.5 -8.533,37.5 ; -8.533,38.5 8.533,38.5 -8.533,38.5 ; 11.467,-38.5 28.533,-38.5 11.467,-38.5 ; 11.467,-37.5 28.533,-37.5 11.467,-37.5 ; 11.467,37.5 28.533,37.5 11.467,37.5 ; 11.467,38.5 28.533,38.5 11.467,38.5 ; 37.5,-28.533 37.5,-11.467 37.5,-28.533 ; 37.5,-8.533 37.5,8.533 37.5,-8.533 ; 37.5,11.467 37.5,28.533 37.5,11.467 ; 38.5,-28.533 38.5,-11.467 38.5,-28.533 ; 38.5,-8.533 38.5,8.533 38.5,-8.533 ; 38.5,11.467 38.5,28.533 38.5,11.467
Mechanical 8:
  lines w0.1: -38,-30 -38,-29 -38,-30 ; -38,-30 -38,-31 -38,-30 ; -38,-30 -37,-30 -38,-30 ; -38,-30 -39,-30 -38,-30 ; -38,-10 -38,-9 -38,-10 ; -38,-10 -38,-11 -38,-10 ; -38,-10 -37,-10 -38,-10 ; -38,-10 -39,-10 -38,-10 ; -38,10 -38,11 -38,10 ; -38,10 -38,9 -38,10 ; -38,10 -37,10 -38,10 ; -38,10 -39,10 -38,10 ; -38,30 -38,31 -38,30 ; -38,30 -38,29 -38,30 ; -38,30 -37,30 -38,30 ; -38,30 -39,30 -38,30 ; -30,-38 -31,-38 -30,-38 ; -30,-38 -29,-38 -30,-38 ; -30,-38 -30,-37 -30,-38 ; -30,-38 -30,-39 -30,-38 ; -30,38 -29,38 -30,38 ; -30,38 -31,38 -30,38 ; -30,38 -30,37 -30,38 ; -30,38 -30,39 -30,38 ; -10,-38 -11,-38 -10,-38 ; -10,-38 -9,-38 -10,-38 ; -10,-38 -10,-37 -10,-38 ; -10,-38 -10,-39 -10,-38 ; -10,38 -9,38 -10,38 ; -10,38 -11,38 -10,38 ; -10,38 -10,37 -10,38 ; -10,38 -10,39 -10,38 ; 0,0 0,1 0,0 ; 0,0 1,0 0,0 ; 0,0 -1,0 0,0 ; 0,0 0,-1 0,0 ; 10,-38 9,-38 10,-38 ; 10,-38 11,-38 10,-38 ; 10,-38 10,-37 10,-38 ; 10,-38 10,-39 10,-38 ; 10,38 11,38 10,38 ; 10,38 9,38 10,38 ; 10,38 10,37 10,38 ; 10,38 10,39 10,38 ; 30,-38 29,-38 30,-38 ; 30,-38 31,-38 30,-38 ; 30,-38 30,-37 30,-38 ; 30,-38 30,-39 30,-38 ; 30,38 31,38 30,38 ; 30,38 29,38 30,38 ; 30,38 30,37 30,38 ; 30,38 30,39 30,38 ; 38,-30 38,-31 38,-30 ; 38,-30 38,-29 38,-30 ; 38,-30 37,-30 38,-30 ; 38,-30 39,-30 38,-30 ; 38,-10 38,-11 38,-10 ; 38,-10 38,-9 38,-10 ; 38,-10 37,-10 38,-10 ; 38,-10 39,-10 38,-10 ; 38,10 38,9 38,10 ; 38,10 38,11 38,10 ; 38,10 37,10 38,10 ; 38,10 39,10 38,10 ; 38,30 38,29 38,30 ; 38,30 38,31 38,30 ; 38,30 37,30 38,30 ; 38,30 39,30 38,30
Mechanical 14:
  lines w0.1: -37.45,28.9 -36.45,28.9 -36.45,37.5 ; -38.5,-38.5 -38.5,38.5 38.5,38.5 38.5,-38.5 -38.5,-38.5 ; -37.5,-37.5 -37.5,37.5 37.5,37.5 37.5,-37.5 -37.5,-37.5
3D body "MSBOX_PERANCEA_PFL7T.stp": height 26, standoff -2.25, extent -39.931,-39.931 39.931,39.931

## MSBOX_PERANCEA_PFL8T [mm] "Metal Screening Box, Internal dimensions L125 x W75 x H25mm, Overall Size 130x80x26mm"
height 26
pads (20):
  round 2.1 hole 1.6: 1(-50,38) 2(-30,38) 3(-10,38) 4(10,38) 5(30,38) 6(50,38) 7(63,30) 8(63,10) 9(63,-10) 10(63,-30) 11(50,-38) 12(30,-38) 13(10,-38) 14(-10,-38) 15(-30,-38) 16(-50,-38) 17(-63,-30) 18(-63,-10) 19(-63,10) 20(-63,30)
Top Overlay:
  lines w0.2: -63.5,-31.361 -63.5,-38.5 -51.361,-38.5 ; -63.5,-28.639 -63.5,-11.361 ; -63.5,-8.639 -63.5,8.639 ; -63.5,11.361 -63.5,28.639 ; -63.5,31.361 -63.5,38.5 -51.361,38.5 ; -62.5,-31.361 -62.5,-37.5 -51.361,-37.5 ; -62.5,-28.639 -62.5,-11.361 ; -62.5,-8.639 -62.5,8.639 ; -62.5,11.361 -62.5,28.639 ; -62.5,31.361 -62.5,37.5 -51.361,37.5 ; -61.639,29.5 -61.5,29.5 -61.5,37.5 ; -48.639,-38.5 -31.361,-38.5 ; -48.639,-37.5 -31.361,-37.5 ; -48.639,37.5 -31.361,37.5 ; -48.639,38.5 -31.361,38.5 ; -28.639,-38.5 -11.361,-38.5 ; -28.639,-37.5 -11.361,-37.5 ; -28.639,37.5 -11.361,37.5 ; -28.639,38.5 -11.361,38.5 ; -8.639,-38.5 8.639,-38.5 ; -8.639,-37.5 8.639,-37.5 ; -8.639,37.5 8.639,37.5 ; -8.639,38.5 8.639,38.5 ; 11.361,-38.5 28.639,-38.5 ; 11.361,-37.5 28.639,-37.5 ; 11.361,37.5 28.639,37.5 ; 11.361,38.5 28.639,38.5 ; 31.361,-38.5 48.639,-38.5 ; 31.361,-37.5 48.639,-37.5 ; 31.361,37.5 48.639,37.5 ; 31.361,38.5 48.639,38.5 ; 51.361,-38.5 63.5,-38.5 63.5,-31.361 ; 51.361,-37.5 62.5,-37.5 62.5,-31.361 ; 51.361,37.5 62.5,37.5 62.5,31.361 ; 51.361,38.5 63.5,38.5 63.5,31.361 ; 62.5,-28.639 62.5,-11.361 ; 62.5,-8.639 62.5,8.639 ; 62.5,11.361 62.5,28.639 ; 63.5,-28.639 63.5,-11.361 ; 63.5,-8.639 63.5,8.639 ; 63.5,11.361 63.5,28.639
Mechanical 8:
  lines w0.1: -64,-30 -63,-30 ; -64,-10 -63,-10 ; -64,10 -63,10 ; -64,30 -63,30 ; -63,-31 -63,-30 ; -63,-29 -63,-30 ; -63,-11 -63,-10 ; -63,-9 -63,-10 ; -63,9 -63,10 ; -63,11 -63,10 ; -63,29 -63,30 ; -63,31 -63,30 ; -62,-30 -63,-30 ; -62,-10 -63,-10 ; -62,10 -63,10 ; -62,30 -63,30 ; -51,-38 -50,-38 ; -51,38 -50,38 ; -50,-39 -50,-38 ; -50,-37 -50,-38 ; -50,37 -50,38 ; -50,39 -50,38 ; -49,-38 -50,-38 ; -49,38 -50,38 ; -31,-38 -30,-38 ; -31,38 -30,38 ; -30,-39 -30,-38 ; -30,-37 -30,-38 ; -30,37 -30,38 ; -30,39 -30,38 ; -29,-38 -30,-38 ; -29,38 -30,38 ; -11,-38 -10,-38 ; -11,38 -10,38 ; -10,-39 -10,-38 ; -10,-37 -10,-38 ; -10,37 -10,38 ; -10,39 -10,38 ; -9,-38 -10,-38 ; -9,38 -10,38 ; 9,-38 10,-38 ; 9,38 10,38 ; 10,-39 10,-38 ; 10,-37 10,-38 ; 10,37 10,38 ; 10,39 10,38 ; 11,-38 10,-38 ; 11,38 10,38 ; 29,-38 30,-38 ; 29,38 30,38 ; 30,-39 30,-38 ; 30,-37 30,-38 ; 30,37 30,38 ; 30,39 30,38 ; 31,-38 30,-38 ; 31,38 30,38 ; 49,-38 50,-38 ; 49,38 50,38 ; 50,-39 50,-38 ; 50,-37 50,-38 ; 50,37 50,38 ; 50,39 50,38 ; 51,-38 50,-38 ; 51,38 50,38 ; 62,-30 63,-30 ; 62,-10 63,-10 ; 62,10 63,10 ; 62,30 63,30 ; 63,-31 63,-30 ; 63,-29 63,-30 ; 63,-11 63,-10 ; 63,-9 63,-10 ; 63,9 63,10 ; 63,11 63,10 ; 63,29 63,30 ; 63,31 63,30 ; 64,-30 63,-30 ; 64,-10 63,-10 ; 64,10 63,10 ; 64,30 63,30 ; 0,0 -1,0 0,0 ; 0,0 0,1 0,0 ; 0,0 0,-1 0,0 ; 0,0 1,0 0,0
Mechanical 14:
  lines w0.1: -62.5,29.5 -61.5,29.5 -61.5,37.5 ; -63.5,-38.5 63.5,-38.5 63.5,38.5 -63.5,38.5 -63.5,-38.5 ; -62.5,-37.5 62.5,-37.5 62.5,37.5 -62.5,37.5 -62.5,-37.5
3D body "MSBOX_PERANCEA_PFL8T.stp": height 25.6, standoff -2.25, extent -64.931,-39.92 64.931,39.92

## MSBOX_PERANCEA_PFL9T [mm] "Metal Screening Box, Internal dimensions L75 x W50 x H15mm, Overall Size 80x55x16mm"
height 16
pads (12):
  round 2.1 hole 1.6: 1(-30,25.5) 2(-10,25.5) 3(10,25.5) 4(30,25.5) 5(38,10) 6(38,-10) 7(30,-25.5) 8(10,-25.5) 9(-10,-25.5) 10(-30,-25.5) 11(-38,-10) 12(-38,10)
Top Overlay:
  lines w0.2: -38.5,-11.467 -38.5,-26 -31.467,-26 ; -38.5,-8.533 -38.5,8.533 ; -38.5,11.467 -38.5,26 -31.467,26 ; -37.5,-11.467 -37.5,-25 -31.467,-25 ; -37.5,-8.533 -37.5,8.533 ; -37.5,11.467 -37.5,25 -31.467,25 ; -37.5,16.4 -36.45,16.4 -36.45,25 ; -28.533,-26 -11.467,-26 ; -28.533,-25 -11.467,-25 ; -28.533,25 -11.467,25 ; -28.533,26 -11.467,26 ; -8.533,-26 8.533,-26 ; -8.533,-25 8.533,-25 ; -8.533,25 8.533,25 ; -8.533,26 8.533,26 ; 11.467,-26 28.533,-26 ; 11.467,-25 28.533,-25 ; 11.467,25 28.533,25 ; 11.467,26 28.533,26 ; 31.467,-26 38.5,-26 38.5,-11.467 ; 31.467,-25 37.5,-25 37.5,-11.467 ; 31.467,25 37.5,25 37.5,11.467 ; 31.467,26 38.5,26 38.5,11.467 ; 37.5,-8.533 37.5,8.533 ; 38.5,-8.533 38.5,8.533
Mechanical 8:
  lines w0.1: -39,-10 -38,-10 ; -39,10 -38,10 ; -38,-11 -38,-10 ; -38,-9 -38,-10 ; -38,9 -38,10 ; -38,11 -38,10 ; -37,-10 -38,-10 ; -37,10 -38,10 ; -31,-25.5 -30,-25.5 ; -31,25.5 -30,25.5 ; -30,-26.5 -30,-25.5 ; -30,-24.5 -30,-25.5 ; -30,24.5 -30,25.5 ; -30,26.5 -30,25.5 ; -29,-25.5 -30,-25.5 ; -29,25.5 -30,25.5 ; -11,-25.5 -10,-25.5 ; -11,25.5 -10,25.5 ; -10,-26.5 -10,-25.5 ; -10,-24.5 -10,-25.5 ; -10,24.5 -10,25.5 ; -10,26.5 -10,25.5 ; -9,-25.5 -10,-25.5 ; -9,25.5 -10,25.5 ; 9,-25.5 10,-25.5 ; 9,25.5 10,25.5 ; 10,-26.5 10,-25.5 ; 10,-24.5 10,-25.5 ; 10,24.5 10,25.5 ; 10,26.5 10,25.5 ; 11,-25.5 10,-25.5 ; 11,25.5 10,25.5 ; 29,-25.5 30,-25.5 ; 29,25.5 30,25.5 ; 30,-26.5 30,-25.5 ; 30,-24.5 30,-25.5 ; 30,24.5 30,25.5 ; 30,26.5 30,25.5 ; 31,-25.5 30,-25.5 ; 31,25.5 30,25.5 ; 37,-10 38,-10 ; 37,10 38,10 ; 38,-11 38,-10 ; 38,-9 38,-10 ; 38,9 38,10 ; 38,11 38,10 ; 39,-10 38,-10 ; 39,10 38,10 ; 0,0 -1,0 0,0 ; 0,0 0,1 0,0 ; 0,0 0,-1 0,0 ; 0,0 1,0 0,0
Mechanical 14:
  lines w0.1: -37.45,16.4 -36.45,16.4 -36.45,25 ; -38.5,-26 -38.5,26 38.5,26 38.5,-26 -38.5,-26 ; -37.5,-25 -37.5,25 37.5,25 37.5,-25 -37.5,-25
3D body "MSBOX_PERANCEA_PFL9T.stp": height 15.6, standoff -2.1, extent -39.941,-27.431 39.942,27.431